# Altium integrated library Captivate_Electrodes.IntLib: 4 symbols
Pins are listed as number, name and electrical type; pins without a type are passive.

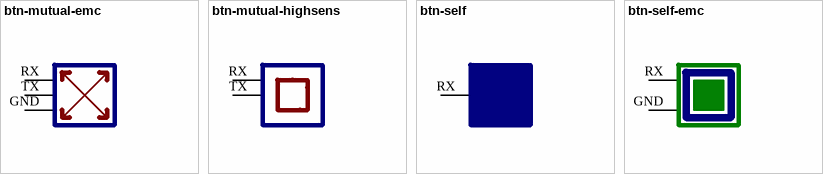
[diagram p0: symbols btn-mutual-emc to btn-self-emc]

## btn-mutual-emc
designator E?, comment Btn-Mutual-EMC  (no BOM)
Capacitive Button, Mutual, 2-layer, High EMC; Manufacturer: None; SymbolCreator: a0273983; CompType: Electrode; U/M: EA, IN, or GM; SymbolVersion: 2014-10-6; MountType: SMT, TH, or N/A; RoHS: Y; PartNumber: Btn-Mutual-EMC; PackageReference: None; ComponentLink1Description: Datasheet Link; Alternate PartNumber: -; Alternate Manufacturer: -
footprint electrode-mutual-highemc (Mutual Capacitance Sensing Electrode with High Noise Immunity)
pins: GND, RX, TX

## btn-mutual-highsens
designator E?, comment Btn-Mutual_HighSens  (no BOM)
Capacitive Button, Mutual, 2-layer, 10mm, High Sensitivity; Manufacturer: None; SymbolCreator: a0273983; CompType: Electrode; U/M: EA, IN, or GM; SymbolVersion: 2015-1-26; MountType: SMT, TH, or N/A; RoHS: Y; PartNumber: Btn-Mutual_HighSens; PackageReference: None; ComponentLink1Description: Datasheet Link; Alternate PartNumber: -; Alternate Manufacturer: -
footprint electrode-mutual-highsensitivity (Mutual Capacitance Sensing Electrode with High Sensitivity)
footprint electrode-mutual-highsensitivity-rotated (Mutual Capacitance Sensing Electrode with High Sensitivity (Rotated))
footprint electrode-mutual-highsensitivity-cut-rotated (Mutual Capacitance Sensing Electrode with High Sensitivity and Cut Rx Square (Rotated))
footprint electrode-mutual-highsensitivity-cut (Mutual Capacitance Sensing Electrode with High Sensitivity and Cut Rx Square)
pins: RX, TX

## btn-self
designator E?, comment Btn-Self
Capacitive Button, Self Capacitance, 2-Layer; Manufacturer: Used in BOM report; SymbolCreator: Use a-id; CompType: Used in some BOM reports.  Useful for finding later.; U/M: EA, IN, or GM; SymbolVersion: 2015-1-26; MountType: SMT, TH, or N/A; RoHS: Used in BOM report.  Use Y or N.; PartNumber: Btn-Self; PackageReference: eg:  0603, used in PnP report; ComponentLink1Description: Datasheet Link; Alternate PartNumber: -; Alternate Manufacturer: -
footprint electrode-self (Self Capacitance Sensing Electrode)
footprint electrode-self-nosilk (Self Capacitance Sensing Electrode)
pins: RX

## btn-self-emc
designator E?, comment Btn-Self-EMC
Capacitive Button, Self Capacitance, 2-Layer, High EMC; Manufacturer: Used in BOM report; SymbolCreator: Use a-id; CompType: Used in some BOM reports.  Useful for finding later.; U/M: EA, IN, or GM; SymbolVersion: 2015-1-26; MountType: SMT, TH, or N/A; RoHS: Used in BOM report.  Use Y or N.; PartNumber: Btn-Self-EMC; PackageReference: eg:  0603, used in PnP report; ComponentLink1Description: Datasheet Link; Alternate PartNumber: -; Alternate Manufacturer: -
footprint electrode-self-highemc (Self Capacitance Sensing Electrode with High EMC)
footprint electrode-self-highemc-nosilk (Self Capacitance Sensing Electrode with High EMC (No Silk))
pins: GND, RX